# EAGLE library part EF9365 (library Custom)
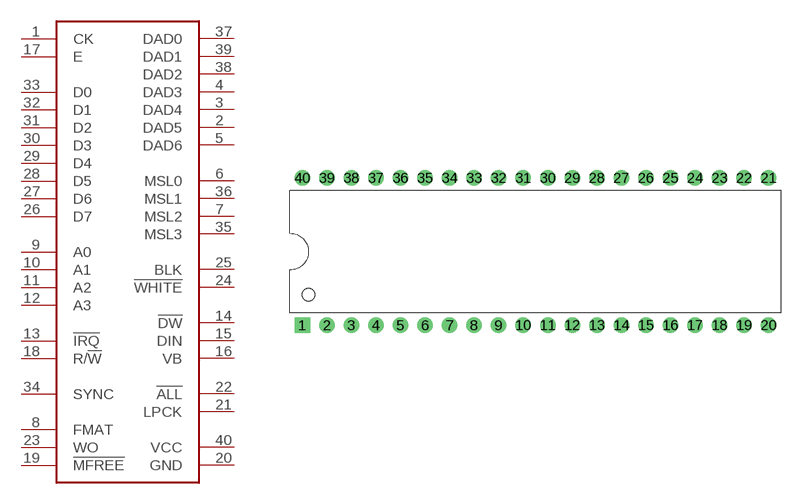
[diagram p17: symbol with the pads of DIP-40; footprint DIP-40]

Designator prefix -

## EF9365  [DIP-40]
1  CK
2  DAD5
3  DAD4
4  DAD3
5  DAD6
6  MSL0
7  MSL2
8  FMAT
9  A0
10  A1
11  A2
12  A3
13  !IRQ
14  !DW
15  DIN
16  VB
17  E
18  R/!W
19  !MFREE
20  GND
21  LPCK
22  !ALL
23  WO
24  !WHITE
25  BLK
26  D7
27  D6
28  D5
29  D4
30  D3
31  D2
32  D1
33  D0
34  SYNC
35  MSL3
36  MSL1
37  DAD0
38  DAD2
39  DAD1
40  VCC

## Footprint DIP-40 (pad centres in mm)
40-Pin DIP, 0.6" Wide
drill 0.889 pad 1.6 square: 1 -22.86,-7.62
drill 0.889 pad 1.6: 2 -20.32,-7.62; 3 -17.78,-7.62; 4 -15.24,-7.62; 5 -12.7,-7.62; 6 -10.16,-7.62; 7 -7.62,-7.62; 8 -5.08,-7.62; 9 -2.54,-7.62; 10 0,-7.62; 11 2.54,-7.62; 12 5.08,-7.62; 13 7.62,-7.62; 14 10.16,-7.62; 15 12.7,-7.62; 16 15.24,-7.62; 17 17.78,-7.62; 18 20.32,-7.62; 19 22.86,-7.62; 20 25.4,-7.62; 21 25.4,7.62; 22 22.86,7.62; 23 20.32,7.62; 24 17.78,7.62; 25 15.24,7.62; 26 12.7,7.62; 27 10.16,7.62; 28 7.62,7.62; 29 5.08,7.62; 30 2.54,7.62; 31 0,7.62; 32 -2.54,7.62; 33 -5.08,7.62; 34 -7.62,7.62; 35 -10.16,7.62; 36 -12.7,7.62; 37 -15.24,7.62; 38 -17.78,7.62; 39 -20.32,7.62; 40 -22.86,7.62